# Altium footprint library Relays.PcbLib: 22 footprints (part 1 of 2)
Each footprint in its own frame and in the unit in brackets; x right, y up, seen from the top. Pads: shape width x height; smd on the part's side, far side on the other; paste and mask are expansions set on the pad; w line width, h text height; cw(c..) or ccw(c..) is an arc to the next point about the centre after c.
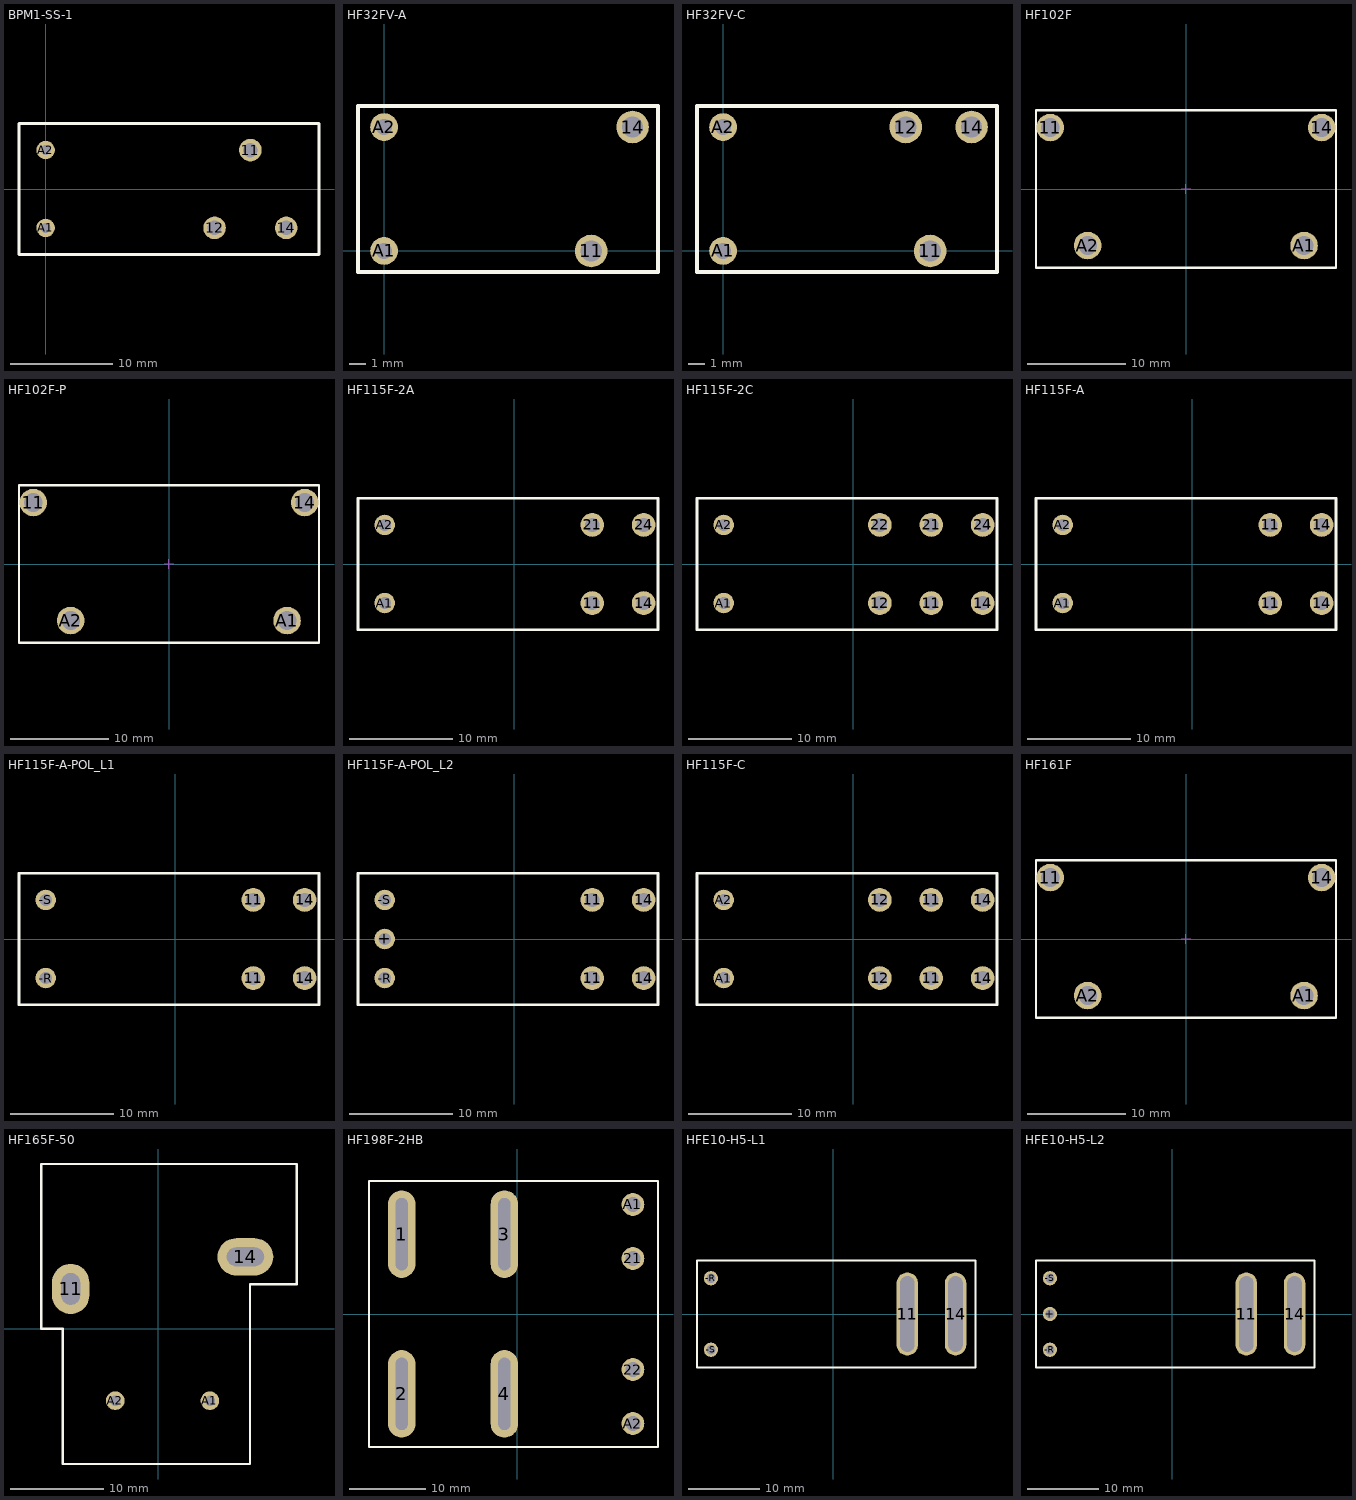
[diagram p0: the footprints below, top view; thin cyan lines are the x and y axes]

## BPM1-SS-1 [mm] "AFE Relay 10A 250V Pitch=3.5mm"
height 20.5
pads (5):
  round 2.2 hole 1.4: 11(20,3.8) 12(16.5,-3.8) 14(23.5,-3.8)
  round 1.8 hole 1: A1(0,-3.8) A2(0,3.8)
Top Overlay:
  lines w0.25: -2.6,-6.4 26.7,-6.4 26.7,6.4 -2.6,6.4 -2.6,-6.4
3D body: height 0, standoff -3, extent 23.35,-4.3 23.65,-3.3
3D body: height 0, standoff -3, extent 16.35,-4.3 16.65,-3.3
3D body: height 0, standoff -3, extent 19.85,3.3 20.15,4.3
3D body: height 0, standoff -3, extent -0.275,-4.075 0.275,-3.525
3D body: height 0, standoff -3, extent -0.275,3.525 0.275,4.075
3D body: height 20.4, standoff 0, extent -2.6,-6.4 26.7,6.4

## HF32FV-A [mm] "Power Relay 10A"
height 15.5
pads (4):
  round 2 hole 1.3: 11(12.7,0) 14(15.24,7.6)
  round 1.7 hole 1: A1(0,0) A2(0,7.6)
Top Overlay:
  lines w0.25: -1.6,-1.3 -1.6,8.9 16.8,8.9 16.8,-1.3 -1.6,-1.3
3D body "HF32FV-T.stp": height 15.82, standoff -3.48, extent -1.6,-1.3 16.8,8.9

## HF32FV-C [mm] "Power Relay 10A"
height 15.5
pads (5):
  round 2 hole 1.3: 11(12.7,0) 12(11.2,7.6) 14(15.24,7.6)
  round 1.7 hole 1: A1(0,0) A2(0,7.6)
Top Overlay:
  lines w0.25: -1.6,-1.3 16.8,-1.3 16.8,8.9 -1.6,8.9 -1.6,-1.3
3D body "HF32FV-T.stp": height 15.82, standoff -3.48, extent -1.6,-1.3 16.8,8.9

## HF102F [mm] "QY102F"
height 33.5
pads (4):
  round 2.8 hole 1.9: 11(-13.8,6.25) 14(13.8,6.25) A1(12,-5.75) A2(-10,-5.75)
Top Overlay:
  lines w0.25: -15.25,-8 -15.25,8 15.25,8 15.25,-8 -15.25,-8
Mechanical 15:
  lines w0.1: -0.5,0 0.5,0 ; 0,-0.5 0,0.5
3D body: height 23.3, standoff 0, extent -15.25,-8 15.25,8
3D body: height 33.3, standoff 23.3, extent -12.125,2.8 -5.775,3.6
3D body: height 33.3, standoff 23.3, extent 6.375,-3.6 12.725,-2.8
3D body: height 0.5, standoff -3.5, extent 13.4,5.5 14.2,7
3D body: height 0.5, standoff -3.5, extent -14.2,5.5 -13.4,7
3D body: height 0.5, standoff -3.5, extent 11.25,-5.9 12.75,-5.6
3D body: height 0.5, standoff -3.5, extent -10.75,-5.9 -9.25,-5.6

## HF102F-P [mm] "QY102F, SFK-1XXDMP like"
height 26.5
pads (4):
  round 2.8 hole 1.9: 11(-13.8,6.25) 14(13.8,6.25) A1(12,-5.75) A2(-10,-5.75)
Top Overlay:
  lines w0.25: -15.25,-8 -15.25,8 15.25,8 15.25,-8 -15.25,-8
Mechanical 15:
  lines w0.1: -0.5,0 0.5,0 ; 0,-0.5 0,0.5
3D body: height 0.5, standoff -3.5, extent 13.4,5.5 14.2,7
3D body: height 0.5, standoff -3.5, extent -14.2,5.5 -13.4,7
3D body: height 0.5, standoff -3.5, extent 11.25,-5.9 12.75,-5.6
3D body: height 0.5, standoff -3.5, extent -10.75,-5.9 -9.25,-5.6
3D body: height 23.3, standoff 0, extent -15.25,-8 15.25,8
3D body: height 26.5, standoff 23.3, extent -15.25,-4.7 15.25,4.7

## HF115F-2A [mm]
pads (6):
  round 2.3 hole 1.4: 11(7.6,-3.8) 14(12.6,-3.8) 21(7.6,3.8) 24(12.6,3.8)
  round 2 hole 1.2: A1(-12.6,-3.8) A2(-12.6,3.8)
Top Overlay:
  lines w0.25: -15.2,-6.4 14,-6.4 14,6.4 -15.2,6.4 -15.2,-6.4
3D body "HF115FK-T.STEP": height 15.7, standoff -3.4, extent -15.2,-6.4 13.8,6.3

## HF115F-2C [mm]
pads (8):
  round 2.3 hole 1.4: 11(7.6,-3.8) 12(2.6,-3.8) 14(12.6,-3.8) 21(7.6,3.8) 22(2.6,3.8) 24(12.6,3.8)
  round 2 hole 1.2: A1(-12.6,-3.8) A2(-12.6,3.8)
Top Overlay:
  lines w0.25: -15.2,-6.4 14,-6.4 14,6.4 -15.2,6.4 -15.2,-6.4
3D body "HF115FK-T.STEP": height 15.7, standoff -3.4, extent -15.2,-6.4 13.8,6.3

## HF115F-A [mm]
pads (6):
  round 2.3 hole 1.4: 11(7.6,-3.8) 11(7.6,3.8) 14(12.6,3.8) 14(12.6,-3.8)
  round 2 hole 1.2: A1(-12.6,-3.8) A2(-12.6,3.8)
Top Overlay:
  lines w0.25: -15.2,-6.4 14,-6.4 14,6.4 -15.2,6.4 -15.2,-6.4
3D body "HF115FK-T.STEP": height 15.7, standoff -3.4, extent -15.2,-6.4 13.8,6.3

## HF115F-A-POL_L1 [mm]
pads (6):
  round 2.3 hole 1.4: 11(7.6,-3.8) 11(7.6,3.8) 14(12.6,3.8) 14(12.6,-3.8)
  round 2 hole 1.2: -R(-12.6,-3.8) -S(-12.6,3.8)
Top Overlay:
  lines w0.25: -15.2,-6.4 -15.2,6.4 14,6.4 14,-6.4 -15.2,-6.4
3D body "HF115FK-T.STEP": height 15.7, standoff -3.4, extent -15.2,-6.4 13.8,6.3

## HF115F-A-POL_L2 [mm]
pads (7):
  round 2.3 hole 1.4: 11(7.6,-3.8) 11(7.6,3.8) 14(12.6,3.8) 14(12.6,-3.8)
  round 2 hole 1.2: +(-12.6,0) -R(-12.6,-3.8) -S(-12.6,3.8)
Top Overlay:
  lines w0.25: -15.2,-6.4 14,-6.4 14,6.4 -15.2,6.4 -15.2,-6.4
3D body: height 0.5, standoff -3, extent -12.875,-0.275 -12.325,0.275
3D body "HF115FK-T.STEP": height 15.7, standoff -3.4, extent -15.2,-6.4 13.8,6.3

## HF115F-C [mm]
pads (8):
  round 2.3 hole 1.4: 11(7.6,-3.8) 11(7.6,3.8) 12(2.6,-3.8) 12(2.6,3.8) 14(12.6,3.8) 14(12.6,-3.8)
  round 2 hole 1.2: A1(-12.6,-3.8) A2(-12.6,3.8)
Top Overlay:
  lines w0.25: -15.2,-6.4 -15.2,6.4 14,6.4 14,-6.4 -15.2,-6.4
3D body "HF115FK-T.STEP": height 15.7, standoff -3.4, extent -15.2,-6.4 13.8,6.3

## HF161F [mm] "SFK-1XXDMP"
height 23.3
pads (4):
  round 2.8 hole 1.9: 11(-13.8,6.25) 14(13.8,6.25) A1(12,-5.75) A2(-10,-5.75)
Top Overlay:
  lines w0.25: -15.25,-8 -15.25,8 15.25,8 15.25,-8 -15.25,-8
Mechanical 15:
  lines w0.1: -0.5,0 0.5,0 ; 0,-0.5 0,0.5
3D body: height 23.3, standoff 0, extent -15.25,-8 15.25,8
3D body: height 0.5, standoff -3.5, extent -10.75,-5.9 -9.25,-5.6
3D body: height 0.5, standoff -3.5, extent 11.25,-5.9 12.75,-5.6
3D body: height 0.5, standoff -3.5, extent -14.2,5.5 -13.4,7
3D body: height 0.5, standoff -3.5, extent 13.4,5.5 14.2,7

## HF165F-50 [mm]
height 19.5
pads (4):
  oval 4x5.4 hole 2 slot 3.4 at 90 deg: 11(-9.375,4.275)
  oval 6x4 hole 2 slot 4 at 0 deg: 14(9.375,7.725)
  round 2 hole 1.1: A1(5.565,-7.725) A2(-4.595,-7.725)
Top Overlay:
  lines w0.25: -12.525,-0.015 -12.525,17.685 14.875,17.685 14.875,4.785 9.875,4.785 9.875,-14.515 -10.225,-14.515 -10.225,-0.015 -12.525,-0.015
3D body "HF165F-50.stp": height 19.4, standoff -3.8, extent -12.535,-14.515 14.865,17.685

## HF198F-2HB [mm] "Power Relay 40A with Auxiliary contact"
height 47
pads (8):
  oval 3.6x11.5 hole 1.6 slot 9.5 at 90 deg: 1(-15.2,10.5) 2(-15.2,-10.5) 3(-1.7,10.5) 4(-1.7,-10.5)
  round 3 hole 2: 21(15.2,7.3) 22(15.2,-7.3) A1(15.2,14.4) A2(15.2,-14.4)
Top Overlay:
  lines w0.25: -19.5,-17.5 18.5,-17.5 18.5,17.5 -19.5,17.5 -19.5,-17.5
3D body "HF198F_x_t.stp": height 47.8, standoff -3.2, extent -19.5,-17.5 18.5,17.5

## HFE10-H5-L1 [mm] "Latched Power Relay 50A"
height 30.5
pads (4):
  oval 3x11.6 hole 2 slot 10.6 at 90 deg: 11(10.375,0) 14(17.125,0)
  round 2 hole 1.3: -R(-17.125,5) -S(-17.125,-5)
Top Overlay:
  lines w0.25: -19.075,-7.5 -19.075,7.5 19.925,7.5 19.925,-7.5 -19.075,-7.5
3D body: height 0, standoff -3, extent 16.325,-4.6 17.925,4.6
3D body: height 0, standoff -3, extent 9.575,-4.6 11.175,4.6
3D body: height 0, standoff -3, extent -17.425,-5.4 -16.825,-4.6
3D body: height 0, standoff -3, extent -17.425,4.6 -16.825,5.4
3D body: height 30.2, standoff 0, extent -19.075,-7.5 19.925,7.5
3D body: height 33.4, standoff 30.2, extent 0.475,-3 5.975,3
3D body: height 33.4, standoff 30.2, extent 2.475,-3 3.975,3

## HFE10-H5-L2 [mm] "Latched Power Relay 50A"
height 30.5
pads (5):
  oval 3x11.6 hole 2 slot 10.6 at 90 deg: 11(10.375,0) 14(17.125,0)
  round 2 hole 1.3: +(-17.125,0) -R(-17.125,-5) -S(-17.125,5)
Top Overlay:
  lines w0.25: -19.075,-7.5 19.925,-7.5 19.925,7.5 -19.075,7.5 -19.075,-7.5
3D body: height 0, standoff -3, extent -17.425,-0.4 -16.825,0.4
3D body: height 33.4, standoff 30.2, extent 2.475,-3 3.975,3
3D body: height 33.4, standoff 30.2, extent 0.475,-3 5.975,3
3D body: height 30.2, standoff 0, extent -19.075,-7.5 19.925,7.5
3D body: height 0, standoff -3, extent -17.425,4.6 -16.825,5.4
3D body: height 0, standoff -3, extent -17.425,-5.4 -16.825,-4.6
3D body: height 0, standoff -3, extent 9.575,-4.6 11.175,4.6
3D body: height 0, standoff -3, extent 16.325,-4.6 17.925,4.6